# Altium integrated library LED.IntLib: 1 symbol
Pins are listed as number, name and electrical type; pins without a type are passive.

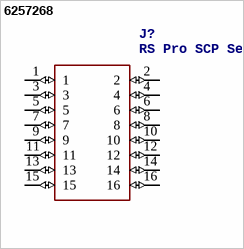
[diagram p0: symbol 6257268]

## 6257268
designator J?, comment RS Pro SCP Series, Through Hole IDC Connector Plug, 16 Way, 2 Row, 2.54mm Pitch   Source:  Datasheet
Manufacturer_Name: RS Components; Manufacturer_Part_Number: 6257268; Description: RS Pro SCP Series, Through Hole IDC Connector Plug, 16 Way, 2 Row, 2.54mm Pitch; Height: 9.3mm
footprint SHDR16W64P254_2X8_2790X860X930
pins: 1 (io), 2 (io), 3 (io), 4 (io), 5 (io), 6 (io), 7 (io), 8 (io), 9 (io), 10 (io), 11 (io), 12 (io), 13 (io), 14 (io), 15 (io), 16 (io)